# EAGLE library part PM8834 (library PM8834)
ST - PM8834 4A Dual, LowSide, PWM MOSFET Driver. http://www.st.com/stonline/products/literature/ds/15086/pm8834.pdf
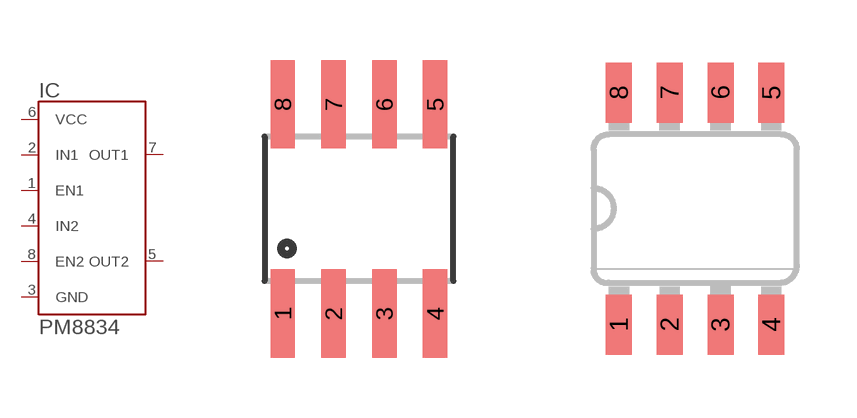
[diagram p0: symbol with the pads of SO08; footprints SO08, SO08N]

Designator prefix IC

## PM8834-SO08 (Availability: Unavailable; Description: PM8834 Series 18 V 4 A 1.3 Ohm SMT Dual Low Side MOSFET Driver - SOIC-8; MF: STMicroelectronics; MP: PM8834; Package: SOIC-8 STMicroelectronics; Price: None)  [SO08]
1  EN1  in
2  IN1  in
3  GND  pwr
4  IN2  in
5  OUT2
6  VCC  pwr
7  OUT1
8  EN2  in

## PM8834-SO08N (Availability: Unavailable; Description: PM8834 Series 18 V 4 A 1.3 Ohm SMT Dual Low Side MOSFET Driver - SOIC-8; MF: STMicroelectronics; MP: PM8834; Package: SOIC-8 STMicroelectronics; Price: None)  [SO08N]
Pads as for SO08

## Footprint SO08 (pad centres in mm)
Small Outline Package Fits JEDEC packages (narrow SOIC-8)
smd 0.61 x 2.21: 1 -1.905,-2.616; 2 -0.635,-2.616; 3 0.635,-2.616; 4 1.905,-2.616; 5 1.905,2.616; 6 0.635,2.616; 7 -0.635,2.616; 8 -1.905,2.616

## Footprint SO08N (pad centres in mm)
smd 0.65 x 1.5: 1 -1.905,-2.9; 2 -0.635,-2.9; 3 0.635,-2.9; 4 1.905,-2.9; 5 1.905,2.9; 6 0.635,2.9; 7 -0.635,2.9; 8 -1.905,2.9